# Altium schematic symbol library PSULib.SchLib: 22 symbols
Pins are listed as number, name and electrical type; pins without a type are passive.

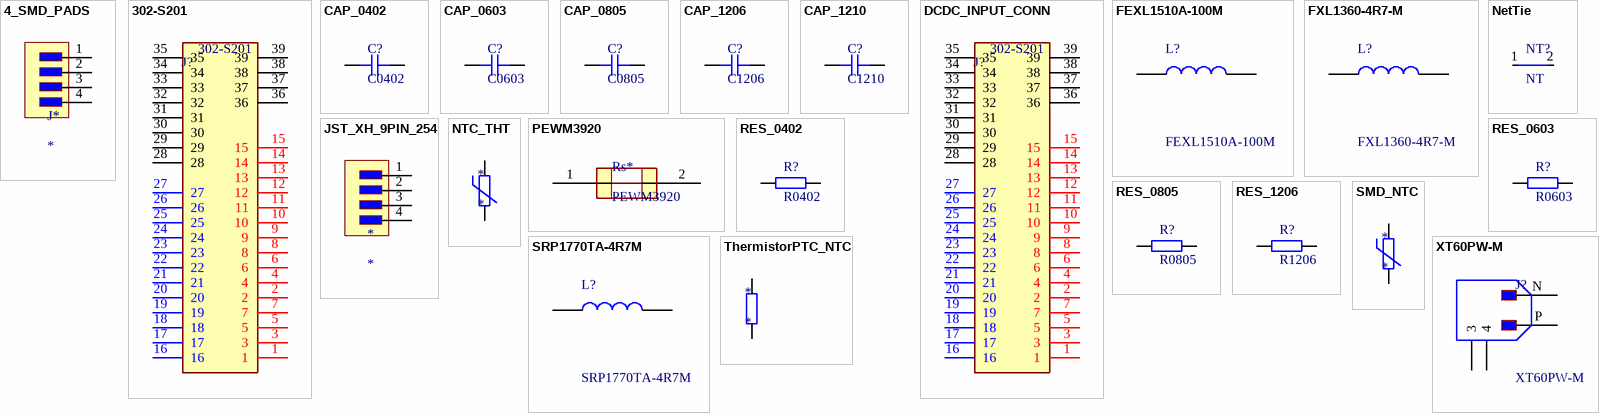
[diagram p0: symbols 4_SMD_PADS to XT60PW-M]

## 4_SMD_PADS
designator J*
DCDC to PSU
footprint 4_SMD_PADS
pins: 1, 2, 3, 4

## 302-S201
designator J?
Conn Shrouded Header HDR 20 POS 2.54mm Solder ST Thru-Hole; Manufacturer_Name: On Shore Technology Inc.; Geometry.Height: 9.05mm; Manufacturer_Part_Number: 302-S201; Mouser Part Number: *; Mouser Price/Stock: *; Arrow Part Number: 302-S201; Arrow Price/Stock: https://www.arrow.com/en/products/302-s201/on-shore-technology?region=nac; Datasheet Link: https://www.on-shore.com/wp-content/uploads/2018/04/302-SXX1.pdf
footprint SHDR20W66P254_2X10_3300X905X905P
pins: 1, 2, 3, 4, 5, 6, 7, 8, 9, 10, 11, 12, 13, 14, 15, 16, 17, 18, 19, 20, 21, 22, 23, 24, 25, 26, 27, 28, 29, 30, 31, 32, 33, 34, 35, 36, 37, 38, 39

## CAP_0402
designator C?, comment C0402
Capacitor SMD 0402; Manufacturer: *; Manufacturer Part Number: *; Distributor Link: *; LCSC: *; Rating: *; Dielectric: *
footprint CAP_0402
pins: 1, 2

## CAP_0603
designator C?, comment C0603
Capacitor SMD 0603; Manufacturer: *; Manufacturer Part Number: *; Distributor Link: *; LCSC: *; Rating: *; Dielectric: *
footprint CAP_0603
pins: 1, 2

## CAP_0805
designator C?, comment C0805
Capacitor SMD 0805; Manufacturer: *; Manufacturer Part Number: *; Distributor Link: *; LCSC: *; Rating: *; Dielectric: *
footprint CAP_0805
pins: 1, 2

## CAP_1206
designator C?, comment C1206
Capacitor SMD 1206; Manufacturer: *; Manufacturer Part Number: *; Distributor Link: *; LCSC: *; Rating: *; Dielectric: *
footprint CAP_1206
footprint CAP_1206
pins: 1, 2

## CAP_1210
designator C?, comment C1210
Capacitor SMD 1210; Manufacturer: *; Manufacturer Part Number: *; Distributor Link: *; LCSC: *; Rating: *; Dielectric: *
footprint CAP_1210
footprint CAP_1210
pins: 1, 2

## DCDC_INPUT_CONN
designator J?, comment 302-S201
Conn Shrouded Header HDR 20 POS 2.54mm Solder ST Thru-Hole; Manufacturer_Name: On Shore Technology Inc.; Geometry.Height: 9.05mm; Manufacturer_Part_Number: 302-S201; Mouser Part Number: *; Mouser Price/Stock: *; Arrow Part Number: 302-S201; Arrow Price/Stock: https://www.arrow.com/en/products/302-s201/on-shore-technology?region=nac; Datasheet Link: https://www.on-shore.com/wp-content/uploads/2018/04/302-SXX1.pdf
footprint SHDR20W66P254_2X10_3300X905X905P
pins: 1, 2, 3, 4, 5, 6, 7, 8, 9, 10, 11, 12, 13, 14, 15, 16, 17, 18, 19, 20, 21, 22, 23, 24, 25, 26, 27, 28, 29, 30, 31, 32, 33, 34, 35, 36, 37, 38, 39

## FEXL1510A-100M
designator L?
Wire Wound Moulded SMD Power Inductor; Manufacturer_Name: cjiang(Changjiang Microelectronics Tech); Manufacturer_Part_Number: FXL1360-4R7-M; Geometry.Height: 6mm; Mouser Part Number: *; Mouser Price/Stock: *; Arrow Part Number: *; Arrow Price/Stock: *; Datasheet Link: https://datasheet.lcsc.com/szlcsc/2005061504_cjiang-Changjiang-Microelectronics-Tech-FXL1360-4R7-M_C526021.pdf
footprint FEXL1510A-100M (24A 10uH Molding Choke ±20% 29A SMD,15.5x16.5mm Power Inductors FEXL1510A-100M)
pins: 1, 2

## FXL1360-4R7-M
designator L?
Wire Wound Moulded SMD Power Inductor; Manufacturer_Name: cjiang(Changjiang Microelectronics Tech); Geometry.Height: 6mm; Manufacturer_Part_Number: FXL1360-4R7-M; Mouser Part Number: *; Mouser Price/Stock: *; Arrow Part Number: *; Arrow Price/Stock: *; Datasheet Link: https://datasheet.lcsc.com/szlcsc/2005061504_cjiang-Changjiang-Microelectronics-Tech-FXL1360-4R7-M_C526021.pdf
footprint INDPM134126X600N
pins: 1, 2

## JST_XH_9PIN_254
designator *
footprint JST_XH_9PIN_254
pins: 1, 2, 3, 4

## NetTie
designator NT?, comment NT
Single point connection between nets
footprint Netie
pins: 1, 2

## NTC_THT
designator *
NTC; 10kΩ; THT; 4150K; -55÷125°C; NTCM-10K-B4150SR PASSIVES
footprint NTC_THT_RES
footprint NTC_THT_RES
pins: 1, 2

## PEWM3920
designator Rs*
8W 1mΩ Surface Mount Current Sensing Resistors ±100ppm/℃ ±1% 3920 Current Sense Resistors/Shunt Resistors ROHS; ComponentLink1Description: New link; ComponentLink1URL: https://www.lcsc.com/product-detail/Current-Sense-Resistors-Shunt-Resistors_RESI-PEWM3920F1L00K9_C5224154.html
footprint PEWM3920
pins: 1, 2

## RES_0402
designator R?, comment R0402
Resistor SMD 0402; Manufacturer: *; Manufacturer Part Number: *; Distributor Link: *; LCSC: *
footprint RES_0402
footprint RES_0402
pins: 1, 2

## RES_0603
designator R?, comment R0603
Resistor SMD 0603; Manufacturer: *; Manufacturer Part Number: *; Distributor Link: *; LCSC: *
footprint RES_0603
footprint RES_0603
pins: 1, 2

## RES_0805
designator R?, comment R0805
Resistor SMD 0805; Manufacturer: *; Manufacturer Part Number: *; Distributor Link: *; LCSC: *
footprint RES_0805
footprint RES_0805
pins: 1, 2

## RES_1206
designator R?, comment R1206
Resistor SMD 1206; Manufacturer: *; Manufacturer Part Number: *; Distributor Link: *; LCSC: *
footprint RES_1206
footprint RES_1206
pins: 1, 2

## SMD_NTC
designator *
footprint NTC_SMD0603
pins: 1, 2

## SRP1770TA-4R7M
designator L?
Bourns SRP1770TA Series Shielded Wire-wound SMD Inductor with a Carbonyl Powder Core, 4.7 uH Wire-Wound 25A Idc Q:20; Geometry.Height: 7mm; Mouser Part Number: 652-SRP1770TA-4R7M; Mouser Price/Stock: https://www.mouser.co.uk/ProductDetail/Bourns/SRP1770TA-4R7M?qs=P%2FbxraXw5h0TW8hufbRYNQ%3D%3D; Manufacturer_Name: Bourns; Manufacturer_Part_Number: SRP1770TA-4R7M; Datasheet Link: https://datasheet.datasheetarchive.com/originals/distributors/DKDS-12/225126.pdf
footprint SRP1770TA4R7M
pins: 1, 2

## ThermistorPTC_NTC
designator *
footprint 0402toSOD523
pins: 1, 2

## XT60PW-M
designator J?
Socket; DC supply; XT60; male; PIN: 2; on PCBs; THT; Colour: yellow; Manufacturer_Name: Changzou Amass Elec; Geometry.Height: 8.4mm; TME Electronic Components Part Number: *; TME Electronic Components Price/Stock: *; Manufacturer_Part_Number: XT60PW-M; Datasheet Link: https://www.tme.eu/Document/9b8d0c5eb7094295f3d3112c214d3ade/XT60PW%20SPEC.pdf
footprint XT60PWM; pin to pad MH2>4 N>2 P>1
pins: MH1 3, MH2 4, N 2, P 1 (power)